# EAGLE library part MSP430G2X31 (library Rohit_Libs)
Ti MSP430G2231 Based on the datasheet by TI Made By Rohit Gupta <http://indiantinker.wordpress.com/>
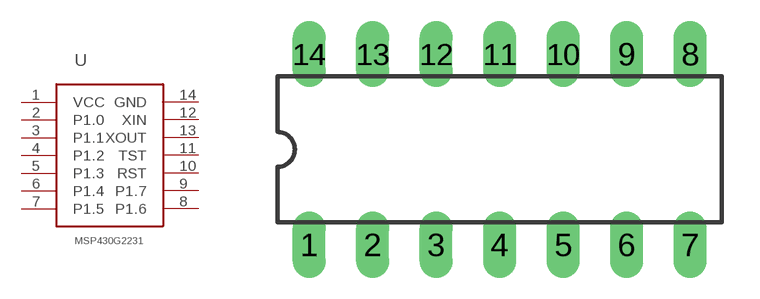
[diagram p2: symbol with the pads of DIL14; footprint DIL14]

Designator prefix -

## MSP430G2X31  [DIL14]
1  VCC  pwr
2  P1.0
3  P1.1
4  P1.2
5  P1.3
6  P1.4
7  P1.5
8  P1.6
9  P1.7
10  RST
11  TST
12  XIN
13  XOUT
14  GND  pwr

## Footprint DIL14 (pad centres in mm)
Dual In Line Package - 14 Pins
drill 0.813 long: 1 -3.81,-3.81; 2 -1.27,-3.81; 3 1.27,-3.81; 4 3.81,-3.81; 5 6.35,-3.81; 6 8.89,-3.81; 7 11.43,-3.81; 8 11.43,3.81; 9 8.89,3.81; 10 6.35,3.81; 11 3.81,3.81; 12 1.27,3.81; 13 -1.27,3.81; 14 -3.81,3.81